# Altium schematic symbol library INA180.Schlib: 1 symbol
Pins are listed as number, name and electrical type; pins without a type are passive.

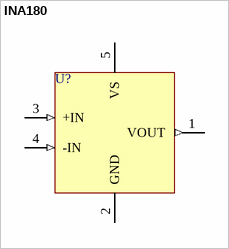
[diagram p0: symbol INA180]

## INA180
designator U?
Current-Sense Amplifiers
pins: 1 VOUT (out), 2 GND (power), 3 +IN (in), 4 -IN (in), 5 VS (power)